# Altium schematic symbol library LED_6PIN_BLU56_GRN34_RED12.SchLib: 1 symbol
Pins are listed as number, name and electrical type; pins without a type are passive.

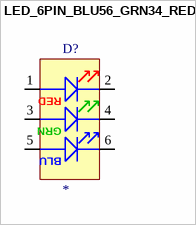
[diagram p0: symbol LED_6PIN_BLU56_GRN34_RED12]

## LED_6PIN_BLU56_GRN34_RED12
designator D?
pins: 1 RA, 2 RC, 3 GA, 4 GC, 5 BA, 6 BC
text: RED; GRN; BLU